# EAGLE library part ADA4853-3RU (library LMV358)
Low Power, Rail-to-Rail Output, Video Op Amps with Ultralow Power Source: http://www.analog.com/static/imported-files/data_sheets/ADA4853-1_4853-2_4853-3.pdf
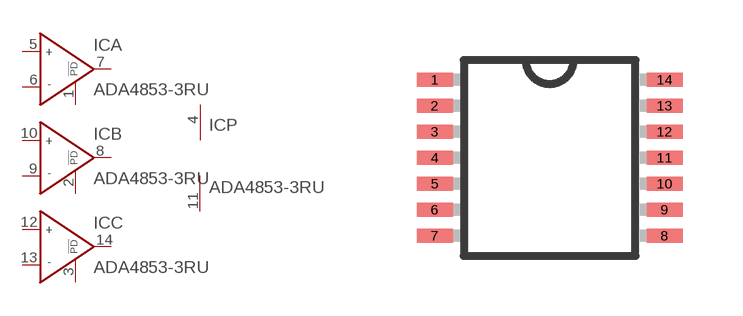
[diagram p124: symbol with the pads of TSSOP14; footprint TSSOP14]

Designator prefix IC; gates A=OP_PD B=OP_PD C=OP_PD P=PWR+-

## ADA4853-3RU (MPN: ADA4853-3YRUZ; OC_FARNELL: 1498692; OC_NEWARK: 15P0326)  [TSSOP14]
1  A:!POWERDOWN  pas
2  B:!POWERDOWN  pas
3  C:!POWERDOWN  pas
4  P:V+  pwr
5  A:IN+  in
6  A:IN-  in
7  A:OUT  out
8  B:OUT  out
9  B:IN-  in
10  B:IN+  in
11  P:V-  pwr
12  C:IN+  in
13  C:IN-  in
14  C:OUT  out

## Footprint TSSOP14 (pad centres in mm)
14-Lead Thin Shrink Small Outline Package [TSSOP] Source: Analog Devices .. 780914713ADD8704_0.pdf
smd 0.9 x 0.35: 1 -2.875,1.95; 2 -2.875,1.3; 3 -2.875,0.65; 4 -2.875,0; 5 -2.875,-0.65; 6 -2.875,-1.3; 7 -2.875,-1.95; 8 2.875,-1.95; 9 2.875,-1.3; 10 2.875,-0.65; 11 2.875,0; 12 2.875,0.65; 13 2.875,1.3; 14 2.875,1.95